# EAGLE library part 686112183522 (library Eagle_FPC_CONNECTOR_AND_FFC_CAB (rev18c))
686112183522 WR-FPC 1.00mm SMT Horizontal Bottom Contact - Low Profile <http://katalog.we-online.de/media/images/v2/Family_WR-FPC_6861xx183522.jpg> Details see: http://katalog.we-online.de/en/em/FPC_1_00_SMT_ZIF_HORIZONTAL_BOTTOM_CONTACT_LOW_PROFILE_6861xx183522 Created by Yingchun,shan 2016 (C) Wurth Elektronik
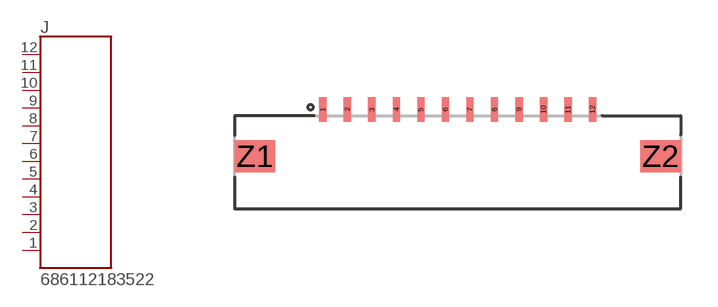
[diagram p159: symbol with the pads of 686112183522; footprint 686112183522]

Designator prefix J

## 686112183522  [686112183522]
1  12  pas
2  11  pas
3  10  pas
4  9  pas
5  8  pas
6  7  pas
7  6  pas
8  5  pas
9  4  pas
10  3  pas
11  2  pas
12  1  pas

## Footprint 686112183522 (pad centres in mm)
smd 0.3 x 1: 1 -5.5,1.9; 2 -4.5,1.9; 3 -3.5,1.9; 4 -2.5,1.9; 5 -1.5,1.9; 6 -0.5,1.9; 7 0.5,1.9; 8 1.5,1.9; 9 2.5,1.9; 10 3.5,1.9; 11 4.5,1.9; 12 5.5,1.9
smd 1.65 x 1.3: Z1 -8.275,0; Z2 8.275,0